# Altium footprint library IMR_LIB_PCB.PcbLib: 119 footprints (part 8 of 8)
Each footprint in its own frame and in the unit in brackets; x right, y up, seen from the top. Pads: shape width x height; smd on the part's side, far side on the other; paste and mask are expansions set on the pad; w line width, h text height; cw(c..) or ccw(c..) is an arc to the next point about the centre after c.
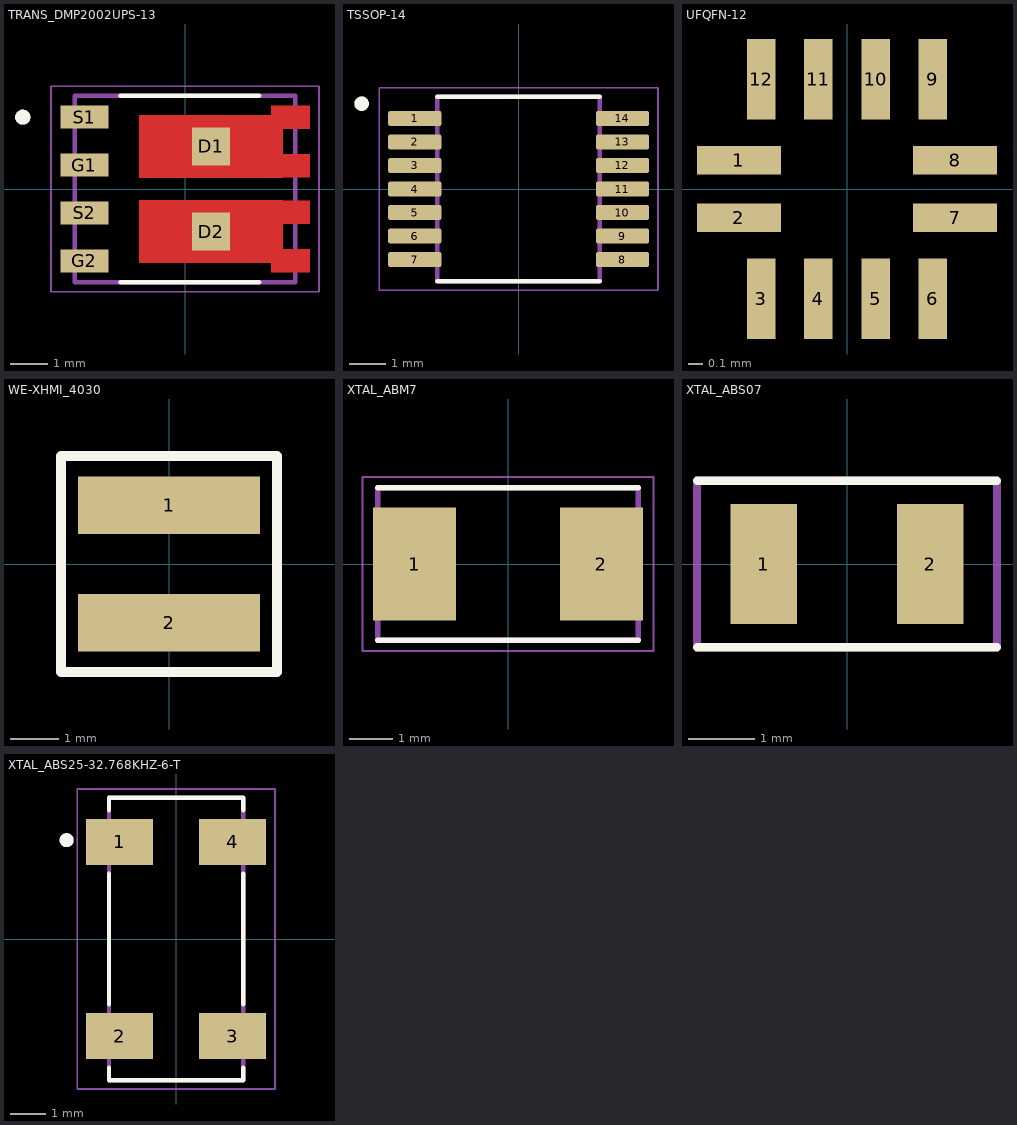
[diagram p7: the footprints below, top view; thin cyan lines are the x and y axes]

## TRANS_DMP2002UPS-13 [mm]
pads (6):
  rect 1x1 smd paste-1 mask+0: D1(0.69,1.13) D2(0.69,-1.13)
  rect 1.27x0.61 smd: G1(-2.67,0.635) G2(-2.67,-1.905) S1(-2.67,1.905) S2(-2.67,-0.635)
Top Layer:
  region: 3.305,1.6 2.595,1.6 2.595,0.927 3.305,0.927 3.305,0.318 2.595,0.318 2.595,0.305 -1.215,0.305 -1.215,1.955 2.285,1.955 2.285,2.21 3.305,2.21
  region: 2.595,-0.318 3.305,-0.318 3.305,-0.927 2.595,-0.927 2.595,-1.6 3.305,-1.6 3.305,-2.21 2.285,-2.21 2.285,-1.955 -1.215,-1.955 -1.215,-0.305 2.595,-0.305
Top Overlay:
  circle w0.2: c-4.305,1.905 r0.1
  lines w0.127: -1.715,-2.475 1.965,-2.475 ; -1.715,2.475 1.965,2.475
Top Paste:
  region: 3.305,-2.21 2.595,-2.21 2.595,-1.6 3.305,-1.6
  region: 3.305,-0.927 2.595,-0.927 2.595,-0.318 3.305,-0.318
  region: 3.305,1.6 2.595,1.6 2.595,2.21 3.305,2.21
  region: 3.305,0.318 2.595,0.318 2.595,0.927 3.305,0.927
  region: 2.325,-1.55 0.825,-1.55 0.825,-0.71 2.325,-0.71
  region: 0.555,-1.55 -0.945,-1.55 -0.945,-0.71 0.555,-0.71
  region: 2.325,0.71 0.825,0.71 0.825,1.55 2.325,1.55
  region: 0.555,0.71 -0.945,0.71 -0.945,1.55 0.555,1.55
Top Solder:
  region: 2.695,-0.218 3.405,-0.218 3.405,-1.028 2.695,-1.028 2.695,-1.5 3.405,-1.5 3.405,-2.31 2.185,-2.31 2.185,-2.055 -1.315,-2.055 -1.315,-0.205 2.695,-0.205
  region: 3.405,1.5 2.695,1.5 2.695,1.028 3.405,1.028 3.405,0.218 2.695,0.218 2.695,0.205 -1.315,0.205 -1.315,2.055 2.185,2.055 2.185,2.31 3.405,2.31
3D Top:
  circle w0.2: c-4.305,1.905 r0.1
  lines w0.127: -2.925,-2.475 2.925,-2.475 2.925,2.475 -2.925,2.475 -2.925,-2.475
Courtyard Top:
  lines w0.05: -3.555,-2.725 3.555,-2.725 3.555,2.725 -3.555,2.725 -3.555,-2.725
3D body: height 1, standoff 0, extent -3.075,-2.575 3.075,2.575

## TSSOP-14 [mm] "TSSOP-14"
height 1
pads (14):
  rrect25% 1.47x0.41 smd: 1(-2.87,1.95) 2(-2.87,1.3) 3(-2.87,0.65) 4(-2.87,0) 5(-2.87,-0.65) 6(-2.87,-1.3) 7(-2.87,-1.95) 8(2.87,-1.95) 9(2.87,-1.3) 10(2.87,-0.65) 11(2.87,0) 12(2.87,0.65) 13(2.87,1.3) 14(2.87,1.95)
Top Overlay:
  circle w0.2: c-4.34,2.36 r0.1
  lines w0.127: -2.25,-2.55 2.25,-2.55 ; -2.25,2.55 2.25,2.55
3D Top:
  circle w0.2: c-4.34,2.36 r0.1
  lines w0.127: -2.25,-2.55 2.25,-2.55 2.25,2.55 -2.25,2.55 -2.25,-2.55
Courtyard Top:
  lines w0.05: -3.855,-2.8 3.855,-2.8 3.855,2.8 -3.855,2.8 -3.855,-2.8
3D body: height 1.2, standoff 0, extent -3.2,-2.5 3.2,2.5

## UFQFN-12 [mm] "ON SMEMICONDUCTOR 12-UMLP 1.8x1.8"
height 0.55
pads (12):
  rect 0.588x0.2 smd: 1(-0.756,0.2) 2(-0.756,-0.2) 7(0.756,-0.2) 8(0.756,0.2)
  rect 0.2x0.563 smd: 3(-0.6,-0.768) 4(-0.2,-0.768) 5(0.2,-0.768) 6(0.6,-0.768) 9(0.6,0.768) 10(0.2,0.768) 11(-0.2,0.768) 12(-0.6,0.768)
3D body: height 0.5, standoff 0, extent -0.9,-0.9 0.9,0.9

## WE-XHMI_4030 [mm]
pads (2):
  rect 3.8x1.2 smd: 1(0,1.225) 2(0,-1.225)
Top Overlay:
  lines w0.2: -2.25,-2.25 2.25,-2.25 2.25,2.25 -2.25,2.25 -2.25,-2.25
3D body: height 2.98, standoff -0.02, extent -2.15,-2.15 2.15,2.15

## XTAL_ABM7 [mm] "ABRACON LLC CRYSTAL"
height 1.4
pads (2):
  rect 1.9x2.6 smd: 1(-2.15,0) 2(2.15,0)
Top Overlay:
  lines w0.127: -3,-1.75 3,-1.75 ; -3,1.75 3,1.75
3D Top:
  lines w0.127: -3,-1.75 -3,1.75 3,1.75 3,-1.75 -3,-1.75
Courtyard Top:
  lines w0.05: -3.35,-2 -3.35,2 3.35,2 3.35,-2 -3.35,-2
3D body: height 1.44, standoff 0, extent -3.05,-1.75 3.05,1.75

## XTAL_ABS07 [mm] "ABRACON LLC CRYSTAL"
height 0.9
pads (2):
  rect 1x1.8 smd: 1(-1.25,0) 2(1.25,0)
Top Overlay:
  lines w0.127: -2.25,-1.25 2.25,-1.25 ; -2.25,1.25 2.25,1.25
3D Top:
  lines w0.127: -2.25,-1.25 2.25,-1.25 2.25,1.25 -2.25,1.25 -2.25,-1.25
Courtyard Top:
  lines w0.05: -2.25,-1.25 2.25,-1.25 2.25,1.25 -2.25,1.25 -2.25,-1.25
3D body: height 0.91, standoff 0, extent -1.61,-0.76 1.61,0.76

## XTAL_ABS25-32.768KHZ-6-T [mm]
pads (4):
  rect 1.9x1.3 smd: 1(-1.6,2.75) 2(-1.6,-2.75) 3(1.6,-2.75) 4(1.6,2.75)
Top Overlay:
  circle w0.2: c-3.1,2.8 r0.1
  lines w0.127: -1.9,-3.65 -1.9,-4 1.9,-4 1.9,-3.65 ; -1.9,-1.85 -1.9,1.85 ; -1.9,3.65 -1.9,4 1.9,4 1.9,3.65 ; 1.9,-1.85 1.9,1.85
3D Top:
  circle w0.2: c-3.1,2.8 r0.1
  lines w0.127: -1.9,-4 1.9,-4 1.9,4 -1.9,4 -1.9,-4
Courtyard Top:
  lines w0.05: -2.8,-4.25 2.8,-4.25 2.8,4.25 -2.8,4.25 -2.8,-4.25
3D body: height 2.7, standoff -0.01, extent -2,-4 2,4